# Altium footprint library 2SC5455.PcbLib: 1 footprints
Each footprint in its own frame and in the unit in brackets; x right, y up, seen from the top. Pads: shape width x height; smd on the part's side, far side on the other; paste and mask are expansions set on the pad; w line width, h text height; cw(c..) or ccw(c..) is an arc to the next point about the centre after c.
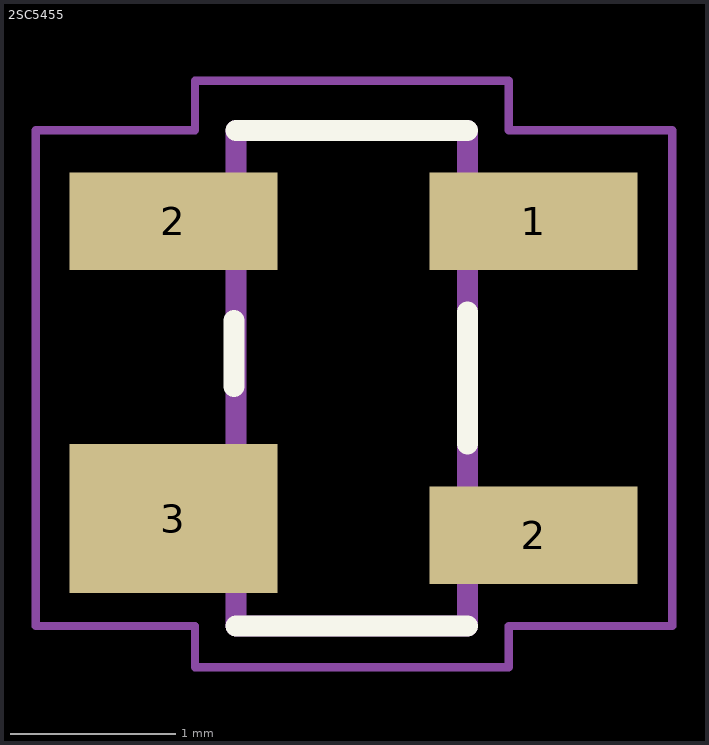
[diagram p0: the footprint, top view; thin cyan lines are the x and y axes]

## 2SC5455 [mm]
pads (4):
  rect 1.26x0.59 smd: 1(-4.087,8.301) 2(-6.267,8.301) 2(-4.087,6.401)
  rect 1.26x0.9 smd: 3(-6.267,6.501)
Top Overlay:
  lines w0.127: -5.9,7.3 -5.9,7.7 ; -5.887,5.851 -4.487,5.851 ; -5.887,8.851 -4.487,8.851 ; -4.487,6.951 -4.487,7.751
Mechanical 13:
  lines w0.127: -5.887,5.851 -5.887,8.851 -4.487,8.851 -4.487,5.851 -5.887,5.851
Mechanical 15:
  lines w0.05: -7.1,5.851 -6.137,5.851 -6.137,5.601 -4.237,5.601 -4.237,5.851 -3.248,5.851 -3.248,8.851 -4.237,8.851 -4.237,9.151 -6.137,9.151 -6.137,8.851 -7.1,8.851 -7.1,5.851